# EAGLE library part DG3XX-10 (library degson)
DG350-3.5-10P DG306-5.0-10P
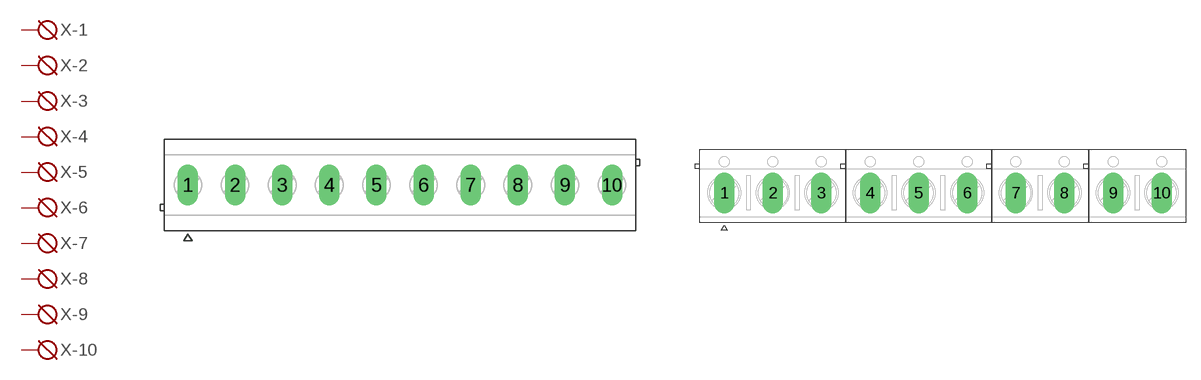
[diagram p4: symbol with the pads of DG350-3.5-10P; footprints DG350-3.5-10P, DG306-5.0-10P]

Designator prefix X; gates -1=KL -2=KL -3=KL -4=KL -5=KL -6=KL -7=KL -8=KL -9=KL -10=KL

## DG3XX-10-3.5  [DG350-3.5-10P]
1  -1:KL  pas
2  -2:KL  pas
3  -3:KL  pas
4  -4:KL  pas
5  -5:KL  pas
6  -6:KL  pas
7  -7:KL  pas
8  -8:KL  pas
9  -9:KL  pas
10  -10:KL  pas

## DG3XX-10-5.0  [DG306-5.0-10P]
Pads as for DG350-3.5-10P

## Footprint DG350-3.5-10P (pad centres in mm)
drill 1 long: 1 -15.75,0; 2 -12.25,0; 3 -8.75,0; 4 -5.25,0; 5 -1.75,0; 6 1.75,0; 7 5.25,0; 8 8.75,0; 9 12.25,0; 10 15.75,0

## Footprint DG306-5.0-10P (pad centres in mm)
drill 1.4 long: 1 -22.5,0; 2 -17.5,0; 3 -12.5,0; 4 -7.5,0; 5 -2.5,0; 6 2.5,0; 7 7.5,0; 8 12.5,0; 9 17.5,0; 10 22.5,0